# Altium footprint library Miscellaneous Devices.PcbLib: 215 footprints (part 2 of 14)
Each footprint in its own frame and in the unit in brackets; x right, y up, seen from the top. Pads: shape width x height; smd on the part's side, far side on the other; paste and mask are expansions set on the pad; w line width, h text height; cw(c..) or ccw(c..) is an arc to the next point about the centre after c.
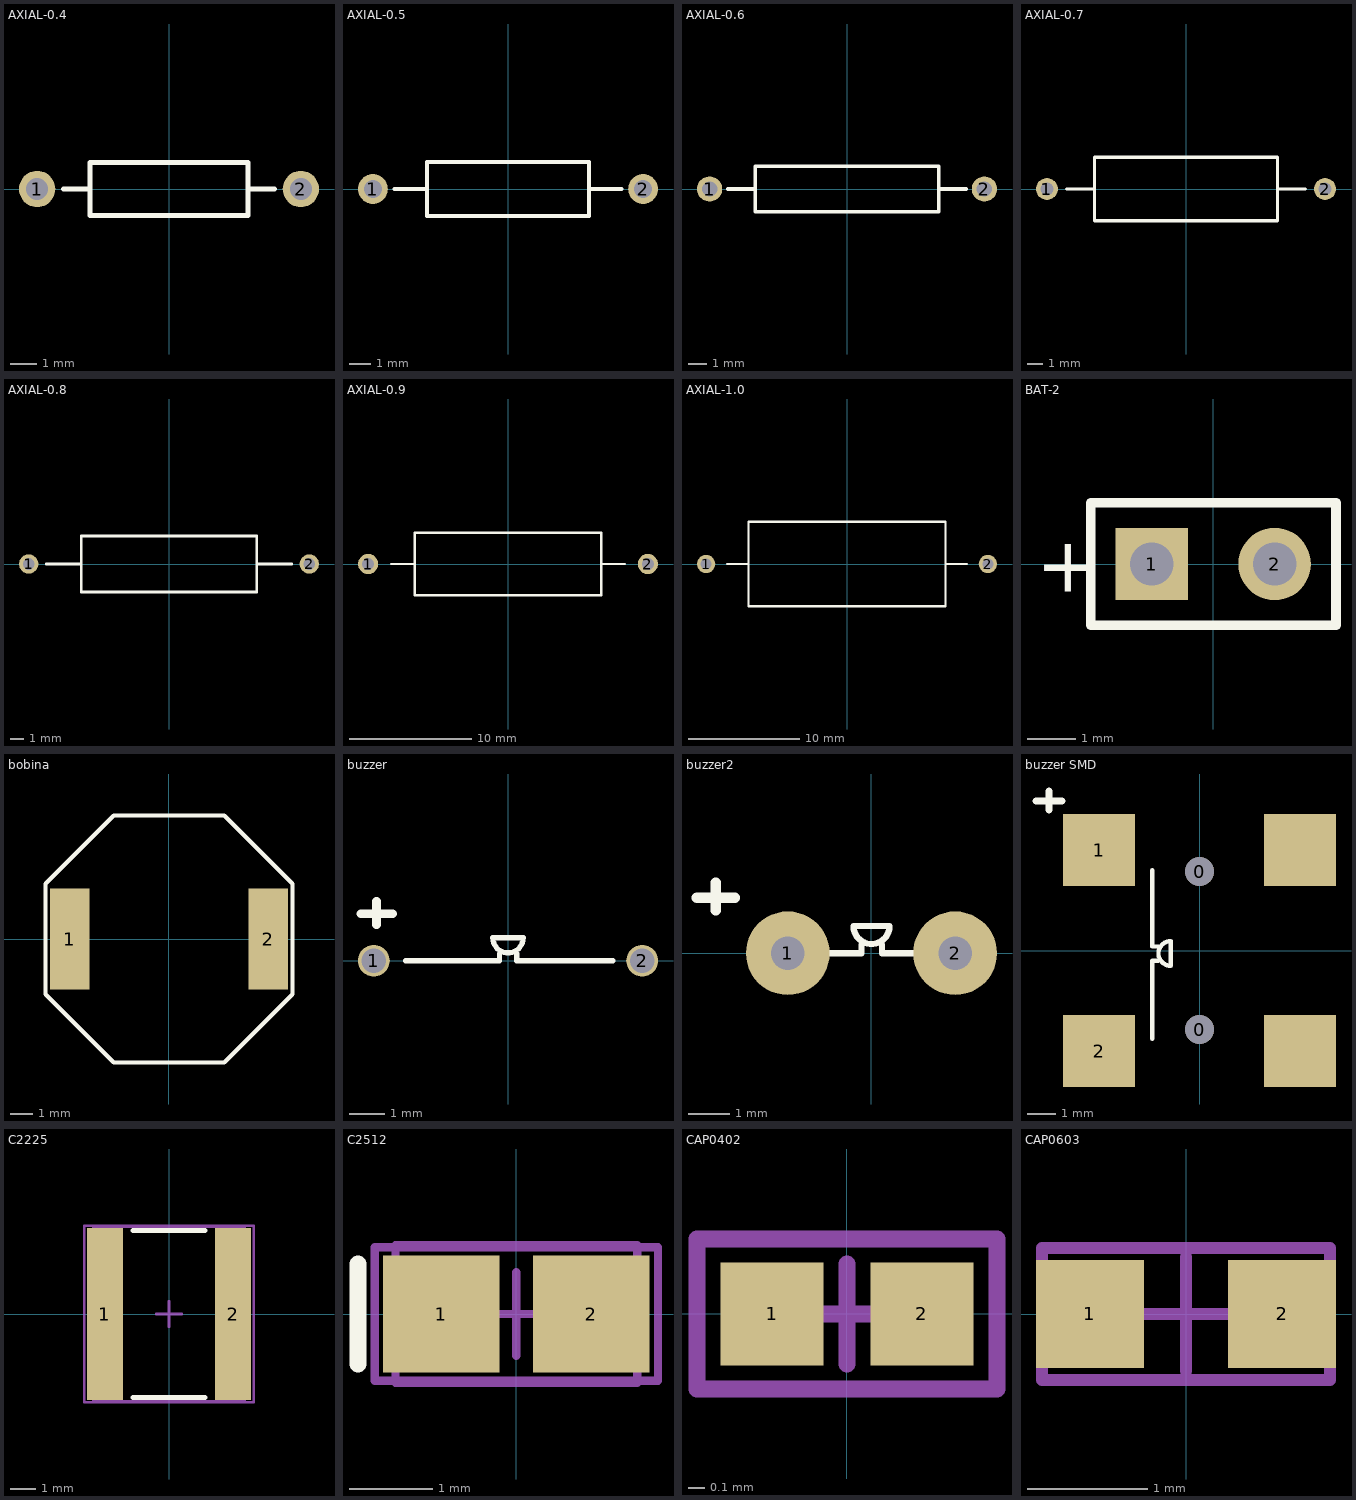
[diagram p1: the footprints below, top view; thin cyan lines are the x and y axes]

## AXIAL-0.4 [mm] "Axial Device, Thru-Hole; 2 Leads; 0.4 in Pin Spacing"
height 2.032
pads (2):
  round 1.4 hole 0.85: 1(-5.08,0) 2(5.08,0)
Top Overlay:
  lines w0.2: -4.064,0 -3.048,0 ; 3.048,0 4.064,0 ; -3.048,-1.016 -3.048,1.016 3.048,1.016 3.048,-1.016 -3.048,-1.016

## AXIAL-0.5 [mm] "Axial Device, Thru-Hole; 2 Leads; 0.5 in Pin Spacing"
height 2.54
pads (2):
  round 1.4 hole 0.85: 1(-6.35,0) 2(6.35,0)
Top Overlay:
  lines w0.2: -5.334,0 -3.81,0 ; 3.81,0 5.334,0 ; -3.81,-1.27 3.81,-1.27 3.81,1.27 -3.81,1.27 -3.81,-1.27

## AXIAL-0.6 [mm] "Axial Device, Thru-Hole; 2 Leads; 0.6 in Pin Spacing"
height 2.54
pads (2):
  round 1.4 hole 0.85: 1(-7.62,0) 2(7.62,0)
Top Overlay:
  lines w0.2: -6.604,0 -5.08,0 ; 5.08,0 6.604,0 ; -5.08,-1.27 5.08,-1.27 5.08,1.27 -5.08,1.27 -5.08,-1.27

## AXIAL-0.7 [mm] "Axial Device, Thru-Hole; 2 Leads; 0.7 in Pin Spacing"
height 4.064
pads (2):
  round 1.4 hole 0.85: 1(-8.89,0) 2(8.89,0)
Top Overlay:
  lines w0.2: -7.62,0 -5.842,0 ; 5.842,0 7.62,0 ; -5.842,-2.032 -5.842,2.032 5.842,2.032 5.842,-2.032 -5.842,-2.032

## AXIAL-0.8 [mm] "Axial Device, Thru-Hole; 2 Leads; 0.8 in Pin Spacing"
height 4.064
pads (2):
  round 1.4 hole 0.85: 1(-10.16,0) 2(10.16,0)
Top Overlay:
  lines w0.2: -8.89,0 -6.35,0 ; 6.35,0 8.89,0 ; -6.35,-2.032 -6.35,2.032 6.35,2.032 6.35,-2.032 -6.35,-2.032

## AXIAL-0.9 [mm] "Axial Device, Thru-Hole; 2 Leads; 0.9 in Pin Spacing"
height 5.08
pads (2):
  round 1.65 hole 1: 1(-11.43,0) 2(11.43,0)
Top Overlay:
  lines w0.2: -9.525,0 -7.62,0 ; 7.62,0 9.525,0 ; -7.62,-2.54 -7.62,2.54 7.62,2.54 7.62,-2.54 -7.62,-2.54

## AXIAL-1.0 [mm] "Axial Device, Thru-Hole; 2 Leads; 1.0 in Pin Spacing"
height 7.62
pads (2):
  round 1.65 hole 1: 1(-12.7,0) 2(12.7,0)
Top Overlay:
  lines w0.2: -10.795,0 -8.89,0 ; 8.89,0 10.795,0 ; -8.89,-3.81 -8.89,3.81 8.89,3.81 8.89,-3.81 -8.89,-3.81

## BAT-2 [mm] "Battery; 2 Leads"
pads (2):
  rect 1.5x1.5 hole 0.9: 1(-1.27,0)
  round 1.5 hole 0.9: 2(1.27,0)
Top Overlay:
  lines w0.2: -2.54,-1.27 2.54,-1.27 2.54,1.27 -2.54,1.27 -2.54,-1.27
  text "+" at -3.67,-0.577 h1.15

## bobina [mm]
pads (2):
  rect 1.8x4.6 smd: 1(-4.5,0) 2(4.5,0)
Top Overlay:
  lines w0.2: -5.6,-2.5 -2.5,-5.6 2.5,-5.6 5.6,-2.5 5.6,2.5 2.5,5.6 -2.5,5.6 -5.6,2.5 -5.6,0 -5.6,-2.5

## buzzer [mm] "CPM121A0A"
pads (2):
  round 0.9 hole 0.7: 1(-3.8,0) 2(3.8,0)
Top Overlay:
  lines w0.15: -2.9,0 -0.24,0 -0.24,0.2 ; 0.25,0.2 0.25,0 2.97,0 ; -0.43,0.65 ccw(c0,0.65) 0.43,0.65 -0.43,0.65
  lines w0.254: -4.17,1.33 -3.27,1.33 ; -3.72,1.03 -3.72,1.68

## buzzer2 [mm] "CMT-9648-85T"
pads (2):
  round 2 hole 0.8: 1(-2,0) 2(2,0)
Top Overlay:
  lines w0.15: -1.25,0 -0.24,0 -0.24,0.2 ; 0.25,0.2 0.25,0 1.35,0 ; -0.43,0.65 ccw(c0,0.65) 0.43,0.65 -0.43,0.65
  lines w0.254: -4.17,1.33 -3.27,1.33 ; -3.72,1.03 -3.72,1.68
3D body "Buzzer.STEP": height 4.8, standoff -4.5, extent -4.5,-4.55 4.5,4.45

## buzzer SMD [mm] "CMT-8503-90-SMT-TR"
pads (6):
  round 1 hole 1 mask+0.102: 0(0,-2.75) 0(0,2.75)
  rect 2.5x2.5 smd: 1(-3.5,3.5) 2(-3.5,-3.5) ""(3.5,-3.5) ""(3.5,3.5)
Top Overlay:
  lines w0.15: -1.65,-3.07 -1.65,-0.35 -1.45,-0.35 ; -1.65,2.8 -1.65,0.14 -1.45,0.14 ; -1,-0.53 cw(c-1,-0.1) -1,0.33 -1,-0.53
  lines w0.254: -5.695,5.205 -4.795,5.205 ; -5.245,4.905 -5.245,5.555
3D body "zumbador - CMT-8503-85B.STEP": height 3.06, standoff 0.01, extent -4.275,-4.4 4.225,4.1

## C2225 [mm] "Chip Capacitor, Body 5.7x6.4mm, IPC High Density"
height 1.4
pads (2):
  rect 1.4x6.7 smd: 1(-2.5,0) 2(2.5,0)
Top Overlay:
  lines w0.2: -1.4,-3.25 1.4,-3.25 ; -1.4,3.25 1.4,3.25
Mechanical 13:
  lines w0.1: -2.95,-3.4 -2.95,3.4 2.95,3.4 2.95,-3.4 -2.95,-3.4
Mechanical 15:
  lines w0.1: -0.5,0 0.5,0 ; 0,-0.5 0,0.5 ; -3.3,-3.45 -3.3,3.45 3.3,3.45 3.3,-3.45 -3.3,-3.45
3D body: height 1.4, standoff 0, extent -2.95,-3.4 2.95,3.4

## C2512 [mm] "Chip Capacitor, Body 2.54x1.27mm, IPC High Density"
height 1.3
pads (2):
  rect 1.4x1.4 smd: 1(-0.9,0) 2(0.9,0)
Top Overlay:
  lines w0.2: -1.9,-0.6 -1.9,0.6
Mechanical 13:
  lines w0.1: -1.45,-0.825 -1.45,0.825 1.45,0.825 1.45,-0.825 -1.45,-0.825
Mechanical 15:
  lines w0.1: -0.5,0 0.5,0 ; 0,-0.5 0,0.5 ; -1.7,-0.8 -1.7,0.8 1.7,0.8 1.7,-0.8 -1.7,-0.8
3D body: height 1.3, standoff 0, extent -1.45,-0.825 1.45,0.825

## CAP0402 [mm] "Chip Capacitor, Body 1.0x0.5mm, IPC High Density"
height 1.3
pads (2):
  rect 0.62x0.62 smd: 1(-0.45,0) 2(0.45,0)
Mechanical 15:
  lines w0.1: -0.3,0 0.3,0 ; 0,-0.3 0,0.3 ; -0.9,-0.45 0.9,-0.45 0.9,0.45 -0.9,0.45 -0.9,-0.45
3D body "CAP0402.STEP": height 0.5, standoff 0, extent -0.35,-0.25 0.35,0.25

## CAP0603 [mm] "Chip Capacitor, Body 1.6x0.8mm, IPC High Density"
height 1.3
pads (2):
  rect 0.9x0.9 smd: 1(-0.8,0) 2(0.8,0)
Mechanical 15:
  lines w0.1: -0.475,0 0.475,0 ; 0,-0.475 0,0.475 ; -1.2,-0.55 1.2,-0.55 1.2,0.55 -1.2,0.55 -1.2,-0.55
3D body "CAP0603.STEP": height 0.86, standoff 0, extent -0.8,-0.4 0.8,0.4